# Altium schematic symbol library Capacitors.SchLib: 1 symbol
Pins are listed as number, name and electrical type; pins without a type are passive.

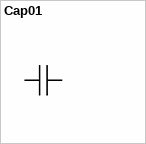
[diagram p0: symbol Cap01]

## Cap01
designator C?, comment 10u
Voltage: 6v3; Dielectric: X5R/X7R; PN: *; Manufacturer: *; ComponentLink1Description: URL; ComponentLink1URL: *
footprint CAPC1608X05N (Chip Capacitor, 2-Leads, Body 1.60x0.85mm, IPC Medium Density)
pins: 1, 2